# Altium footprint library TECO-1981568-5_V.PcbLib: 1 footprints
Each footprint in its own frame and in the unit in brackets; x right, y up, seen from the top. Pads: shape width x height; smd on the part's side, far side on the other; paste and mask are expansions set on the pad; w line width, h text height; cw(c..) or ccw(c..) is an arc to the next point about the centre after c.
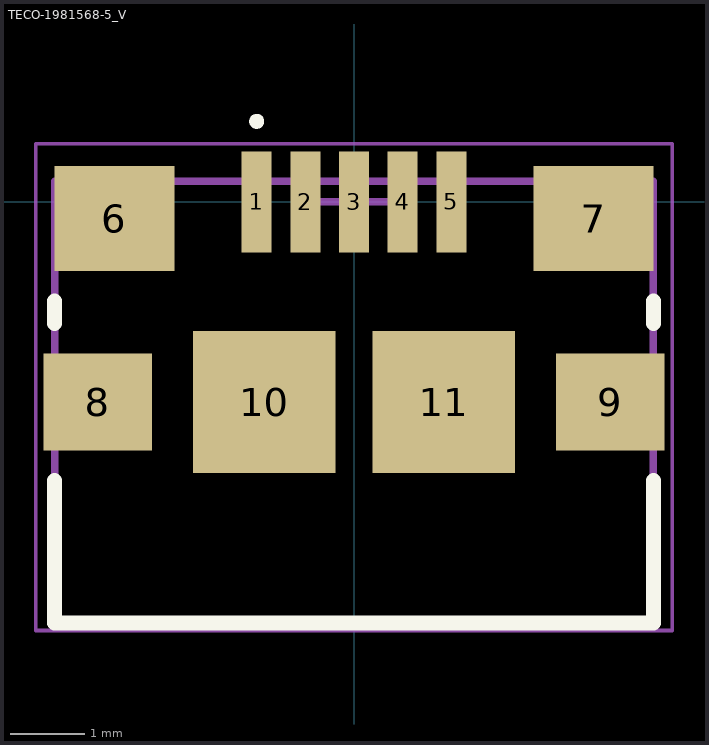
[diagram p0: the footprint, top view; thin cyan lines are the x and y axes]

## TECO-1981568-5_V [mm] "SMD, 5-Leads, Body 8x5.9mm, Pitch 0.65mm"
height 3
pads (11):
  rect 0.4x1.35 smd: 1(-1.3,0) 2(-0.65,0) 3(0,0) 4(0.65,0) 5(1.3,0)
  rect 1.6x1.4 smd: 6(-3.2,-0.225) 7(3.2,-0.225)
  rect 1.45x1.3 smd: 8(-3.425,-2.675) 9(3.425,-2.675)
  rect 1.9x1.9 smd: 10(-1.2,-2.675) 11(1.2,-2.675)
Top Overlay:
  circle w0.1: c-1.3,1.075 r0.05
  lines w0.2: -4,-3.725 -4,-5.625 4,-5.625 4,-3.725 ; -4,-1.625 -4,-1.325 ; 4,-1.625 4,-1.325
Mechanical 13:
  lines w0.1: -4,-5.625 -4,0.275 4,0.275 4,-5.625 -4,-5.625
Mechanical 15:
  lines w0.05: -4.25,-5.725 4.25,-5.725 4.25,0.775 -4.25,0.775 -4.25,-5.725
  lines w0.1: -0.5,0 0.5,0 ; 0,-0.5 0,0.5
3D body: height 3, standoff 0, extent -4,-5.625 4,0.275